# Altium footprint library MICROCHIP_Footprints.PcbLib: 9 footprints
Each footprint in its own frame and in the unit in brackets; x right, y up, seen from the top. Pads: shape width x height; smd on the part's side, far side on the other; paste and mask are expansions set on the pad; w line width, h text height; cw(c..) or ccw(c..) is an arc to the next point about the centre after c.
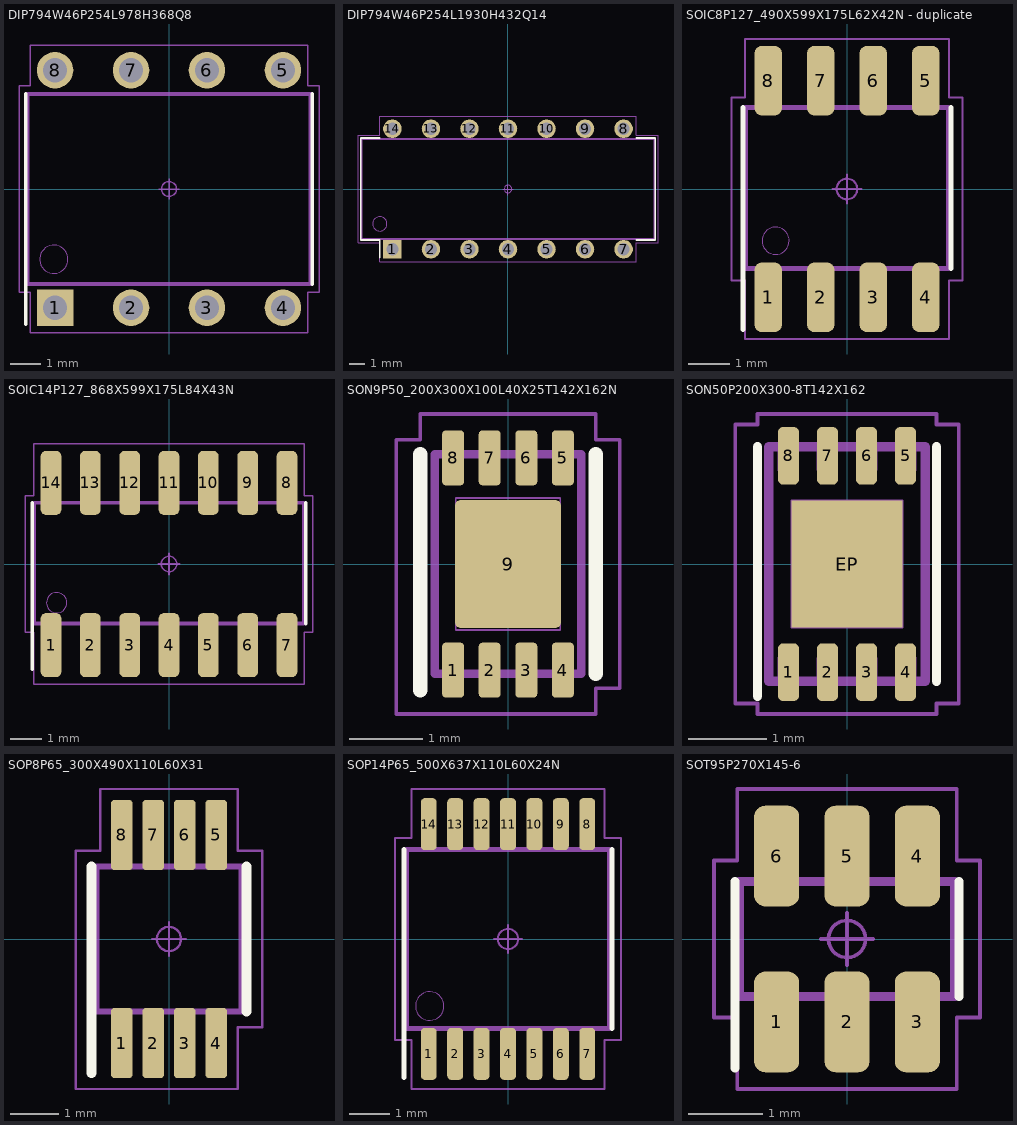
[diagram p0: the footprints below, top view; thin cyan lines are the x and y axes]

## DIP794W46P254L978H368Q8 [mm] "DIP, 7.94 mm lead span, 2.54 mm pitch; 8 pin, 9.78 mm L X 6.60 mm W X 3.68 mm H body"
height 3.68
pads (8):
  rect 1.22x1.22 hole 0.81: 1(-3.81,-3.97)
  round 1.22 hole 0.81: 2(-1.27,-3.97) 3(1.27,-3.97) 4(3.81,-3.97) 5(3.81,3.97) 6(1.27,3.97) 7(-1.27,3.97) 8(-3.81,3.97)
Top Overlay:
  lines w0.12: -4.79,-4.52 -4.79,3.175 ; 4.79,-3.175 4.79,3.175
Mechanical 11:
  lines w0.12: -4.73,-3.175 4.73,-3.175 4.73,3.175 -4.73,3.175 -4.73,-3.175
Mechanical 12:
  circle w0.025: c-3.85,-2.35 r0.472
  lines w0.025: -4.73,-3.175 4.73,-3.175 4.73,3.175 -4.73,3.175 -4.73,-3.175
Mechanical 15:
  circle w0.05: c0,0 r0.25
  lines w0.05: -0.35,0 0.35,0 ; 0,-0.35 0,0.35 ; -5.015,-3.46 -4.645,-3.46 -4.645,-4.805 4.645,-4.805 4.645,-3.46 5.015,-3.46 5.015,3.46 4.645,3.46 4.645,4.805 -4.645,4.805 -4.645,3.46 -5.015,3.46 -5.015,-3.46
Mechanical 16:
  text ".Designator" at 0,0 h1.2
3D body "DIP794W46P254L978H368Q8.STEP": height 3.68, standoff -2, extent -4.89,-4.15 4.89,4.08

## DIP794W46P254L1930H432Q14 [mm] "DIP, 7.94 mm lead span, 2.54 mm pitch; 14 pin, 19.30 mm L X 6.60 mm W X 4.32 mm H body"
height 4.32
pads (14):
  rect 1.22x1.22 hole 0.81: 1(-7.62,-3.97)
  round 1.22 hole 0.81: 2(-5.08,-3.97) 3(-2.54,-3.97) 4(0,-3.97) 5(2.54,-3.97) 6(5.08,-3.97) 7(7.62,-3.97) 8(7.62,3.97) 9(5.08,3.97) 10(2.54,3.97) 11(0,3.97) 12(-2.54,3.97) 13(-5.08,3.97) 14(-7.62,3.97)
Top Overlay:
  lines w0.12: -8.455,-4.52 -8.455,-3.36 -9.71,-3.36 -9.71,3.36 -8.455,3.36 ; 8.455,-3.36 9.71,-3.36 9.71,3.36 8.455,3.36
Mechanical 11:
  lines w0.12: -9.65,-3.3 -9.65,3.3 9.65,3.3 9.65,-3.3 -9.65,-3.3
Mechanical 12:
  circle w0.025: c-8.45,-2.3 r0.472
  lines w0.025: -9.65,-3.3 9.65,-3.3 9.65,3.3 -9.65,3.3 -9.65,-3.3
Mechanical 15:
  circle w0.05: c0,0 r0.25
  lines w0.05: -0.35,0 0.35,0 ; 0,-0.425 0,0.275 ; 9.888,-3.538 8.455,-3.538 8.455,-4.805 -8.455,-4.805 -8.455,-3.538 -9.888,-3.538 -9.888,3.538 -8.455,3.538 -8.455,4.805 8.455,4.805 8.455,3.538 9.888,3.538 9.888,-3.538
Mechanical 16:
  text ".Designator" at 0,0 h1.2
3D body "DIP794W46P254L1930H432Q14.STEP": height 4.32, standoff -2, extent -9.65,-4.125 9.65,4.105

## SOIC8P127_490X599X175L62X42N - duplicate [mm] "Small Outline IC (SOIC), 1.27 mm pitch; 8 pin, 4.90 mm L X 3.85 mm W X 1.75 mm H body"
height 1.75
pads (8):
  rrect52% 0.66x1.68 smd: 1(-1.905,-2.62) 2(-0.635,-2.62) 3(0.635,-2.62) 4(1.905,-2.62) 5(1.905,2.62) 6(0.635,2.62) 7(-0.635,2.62) 8(-1.905,2.62)
Top Overlay:
  lines w0.12: -2.51,-3.4 -2.51,1.975 ; 2.51,-1.925 2.51,1.975
Mechanical 11:
  lines w0.12: -2.45,-1.925 -2.45,1.975 2.45,1.975 2.45,-1.925 -2.45,-1.925
Mechanical 12:
  lines w0.025: -1.403,-1.181 ccw(c-1.725,-1.25) -1.4,-1.2 ; -2.45,-1.925 -2.45,1.985 2.45,1.985 2.45,-1.925 -2.45,-1.925 ; -2.115,-2.98 -2.115,-2.36 -1.695,-2.36 -1.695,-2.98 -2.115,-2.98 ; -2.115,2.42 -1.695,2.42 -1.695,3.04 -2.115,3.04 -2.115,2.42 ; -0.845,-2.98 -0.845,-2.36 -0.425,-2.36 -0.425,-2.98 -0.845,-2.98 ; -0.845,2.42 -0.425,2.42 -0.425,3.04 -0.845,3.04 -0.845,2.42 ; 0.425,-2.98 0.425,-2.36 0.845,-2.36 0.845,-2.98 0.425,-2.98 ; 0.425,2.42 0.845,2.42 0.845,3.04 0.425,3.04 0.425,2.42 ; 1.695,-2.98 1.695,-2.36 2.115,-2.36 2.115,-2.98 1.695,-2.98 ; 1.695,2.42 2.115,2.42 2.115,3.04 1.695,3.04 1.695,2.42
Mechanical 15:
  circle w0.05: c0,0 r0.25
  lines w0.05: -0.35,0 0.355,0 ; 0,-0.35 0,0.35 ; -2.795,-2.21 -2.46,-2.21 -2.46,-3.625 2.46,-3.625 2.46,-2.21 2.795,-2.21 2.795,2.21 2.46,2.21 2.46,3.625 -2.46,3.625 -2.46,2.21 -2.795,2.21 -2.795,-2.21
Mechanical 16:
  text ".Designator" at 0,0 h1.2
3D body "SOIC8P127_490X599X175L62X42.STEP": height 1.75, standoff 0, extent -2.45,-2.972 2.45,3.023

## SOIC14P127_868X599X175L84X43N [mm] "Small Outline IC (SOIC), 1.27 mm pitch; 14 pin, 8.685 mm L X 3.90 mm W X 1.75 mm H body"
height 1.75
pads (14):
  rrect52% 0.67x2.07 smd: 1(-3.81,-2.62) 2(-2.54,-2.62) 3(-1.27,-2.62) 4(0,-2.62) 5(1.27,-2.62) 6(2.54,-2.62) 7(3.81,-2.62) 8(3.81,2.62) 9(2.54,2.62) 10(1.27,2.62) 11(0,2.62) 12(-1.27,2.62) 13(-2.54,2.62) 14(-3.81,2.62)
Top Overlay:
  lines w0.12: -4.415,-3.4 -4.415,1.975 ; 4.415,-1.925 4.415,1.975
Mechanical 11:
  lines w0.12: -4.355,-1.925 -4.355,1.975 4.355,1.975 4.355,-1.925 -4.355,-1.925
Mechanical 12:
  lines w0.025: -3.6,3.03 -3.6,2.19 -4.02,2.19 -4.02,3.03 -3.6,3.04 ; -3.308,-1.181 ccw(c-3.63,-1.25) -3.305,-1.2 ; -4.355,-1.925 -4.355,1.985 4.355,1.985 4.355,-1.925 -4.355,-1.925 ; -4.02,-2.97 -4.02,-2.13 -3.6,-2.13 -3.6,-2.97 -4.02,-2.97 ; -2.75,-2.97 -2.75,-2.13 -2.33,-2.13 -2.33,-2.97 -2.75,-2.97 ; -2.75,2.19 -2.33,2.19 -2.33,3.03 -2.75,3.03 -2.75,2.19 ; -1.48,-2.97 -1.48,-2.13 -1.06,-2.13 -1.06,-2.97 -1.48,-2.97 ; -1.48,2.19 -1.06,2.19 -1.06,3.03 -1.48,3.03 -1.48,2.19 ; -0.21,-2.97 -0.21,-2.13 0.21,-2.13 0.21,-2.97 -0.21,-2.97 ; -0.21,2.19 0.21,2.19 0.21,3.03 -0.21,3.03 -0.21,2.19 ; 1.06,-2.97 1.48,-2.97 1.48,-2.13 1.06,-2.13 1.06,-2.97 ; 1.06,2.19 1.48,2.19 1.48,3.03 1.06,3.03 1.06,2.19 ; 2.33,-2.97 2.75,-2.97 2.75,-2.13 2.33,-2.13 2.33,-2.97 ; 2.33,2.19 2.75,2.19 2.75,3.03 2.33,3.03 2.33,2.19 ; 3.6,-2.97 4.02,-2.97 4.02,-2.13 3.6,-2.13 3.6,-2.97 ; 3.6,2.19 4.02,2.19 4.02,3.03 3.6,3.03 3.6,2.19
Mechanical 15:
  circle w0.05: c0,0 r0.25
  lines w0.05: -0.35,0 0.35,0 ; 0,-0.35 0,0.35 ; -4.64,-2.21 -4.365,-2.21 -4.365,-3.88 4.365,-3.88 4.365,-2.21 4.64,-2.21 4.64,2.21 4.365,2.21 4.365,3.88 -4.365,3.88 -4.365,2.21 -4.64,2.21 -4.64,-2.21
Mechanical 16:
  text ".Designator" at 0,0 h1.2
3D body "SOIC14P127_868X599X175L84X43.STEP": height 1.75, standoff 0, extent -4.342,-2.95 4.342,3.045

## SON9P50_200X300X100L40X25T142X162N [mm]
height 0.9
pads (9):
  rrect33% 0.3x0.75 smd: 1(-0.75,-1.45) 2(-0.25,-1.45) 3(0.25,-1.45) 4(0.75,-1.45) 5(0.75,1.45) 6(0.25,1.45) 7(-0.25,1.45) 8(-0.75,1.45)
  rrect11% 1.45x1.75 smd: 9(0,0)
Top Overlay:
  lines w0.2: -1.2,-1.725 -1.2,1.5 ; 1.2,-1.5 1.2,1.5
Mechanical 11:
  lines w0.12: -1,-1.5 1,-1.5 1,1.5 -1,1.5 -1,-1.5
Mechanical 12:
  lines w0.025: -0.875,-1.5 -0.875,-1.2 cw(c-0.75,-1.228) -0.625,-1.2 -0.625,-1.5 ; -0.875,1.5 -0.875,1.2 ccw(c-0.75,1.228) -0.625,1.2 -0.625,1.5 ; -0.713,-0.9 0.713,-0.9 0.713,0.9 -0.713,0.9 -0.713,-0.9 ; -0.375,-1.5 -0.375,-1.2 cw(c-0.25,-1.228) -0.125,-1.2 -0.125,-1.5 ; -0.375,1.5 -0.375,1.2 ccw(c-0.25,1.228) -0.125,1.2 -0.125,1.5 ; 0.125,-1.5 0.125,-1.2 cw(c0.25,-1.228) 0.375,-1.2 0.375,-1.5 ; 0.125,1.5 0.125,1.2 ccw(c0.25,1.228) 0.375,1.2 0.375,1.5 ; 0.625,-1.5 0.625,-1.2 cw(c0.75,-1.228) 0.875,-1.2 0.875,-1.5 ; 0.625,1.5 0.625,1.2 ccw(c0.75,1.228) 0.875,1.2 0.875,1.5 ; -1,-1.5 -1,1.5 1,1.5 1,-1.5 -1,-1.5
Mechanical 15:
  circle w0.05: c0,0 r0.25
  lines w0.05: -0.35,0 0.35,0 ; 0,-0.35 0,0.35 ; -1.525,-2.05 1.2,-2.05 1.2,-1.7 1.525,-1.7 1.525,1.7 1.2,1.7 1.2,2.05 -1.2,2.05 -1.2,1.7 -1.525,1.7 -1.525,-2.05
Mechanical 16:
  text ".Designator" at 0,0 h1.2
3D body "User Library-DFN-8-2.step": height 0.9, standoff 0, extent -1,-1.52 1,1.52

## SON50P200X300-8T142X162 [mm] "Small Outline No-Lead (SON with Tab), 0.50 mm pitch; 8 pin, 2.00 mm L X 3.00 mm W X 1.00 mm H body"
height 1
pads (9):
  rrect50% 0.27x0.74 smd: 1(-0.75,-1.385) 2(-0.25,-1.385) 3(0.25,-1.385) 4(0.75,-1.385) 5(0.75,1.385) 6(0.25,1.385) 7(-0.25,1.385) 8(-0.75,1.385)
  rect 1.425x1.625 smd paste-1.625: EP(0,0)
Top Overlay:
  lines w0.12: -1.145,-1.695 -1.145,1.5 ; 1.145,-1.5 1.145,1.5
Top Paste:
  region: 0.49,-0.665 -0.49,-0.665 -0.49,-0.075 0.49,-0.075
  region: 0.49,0.075 -0.49,0.075 -0.49,0.665 0.49,0.665
Mechanical 11:
  lines w0.12: -1,-1.5 1,-1.5 1,1.5 -1,1.5 -1,-1.5
Mechanical 12:
  lines w0.025: -0.875,-1.5 -0.875,-1.2 cw(c-0.75,-1.228) -0.625,-1.2 -0.625,-1.5 ; -0.875,1.5 -0.875,1.2 ccw(c-0.75,1.228) -0.625,1.2 -0.625,1.5 ; -0.712,0.812 -0.712,-0.813 ; -0.375,-1.5 -0.375,-1.2 cw(c-0.25,-1.228) -0.125,-1.2 -0.125,-1.5 ; -0.375,1.5 -0.375,1.2 ccw(c-0.25,1.228) -0.125,1.2 -0.125,1.5 ; 0.125,-1.5 0.125,-1.2 cw(c0.25,-1.228) 0.375,-1.2 0.375,-1.5 ; 0.125,1.5 0.125,1.2 ccw(c0.25,1.228) 0.375,1.2 0.375,1.5 ; 0.625,-1.5 0.625,-1.2 cw(c0.75,-1.228) 0.875,-1.2 0.875,-1.5 ; 0.625,1.5 0.625,1.2 ccw(c0.75,1.228) 0.875,1.2 0.875,1.5 ; 0.713,0.812 0.713,-0.813 ; -0.712,-0.813 0.713,-0.813 ; -0.713,-0.813 0.713,-0.813 ; -0.713,-0.813 -0.713,0.813 ; -0.712,0.813 0.713,0.813 ; -0.713,0.813 0.713,0.813 ; 0.713,-0.813 0.713,0.813 ; -1,-1.5 1,-1.5 1,1.5 -1,1.5 -1,-1.5
Mechanical 15:
  circle w0.05: c0,0 r0.25
  lines w0.05: -0.35,0 0.35,0 ; 0,-0.35 0,0.35 ; -1.43,-1.785 -1.145,-1.785 -1.145,-1.92 1.145,-1.92 1.145,-1.785 1.43,-1.785 1.43,1.785 1.145,1.785 1.145,1.92 -1.145,1.92 -1.145,1.785 -1.43,1.785 -1.43,-1.785
Mechanical 16:
  text "'.Designator'" at 0,0 h1.2
3D body "SON9P50_200X300X100L40X25T142X162.STEP": height 1, standoff 0, extent -1,-1.55 1,1.55

## SOP8P65_300X490X110L60X31 [mm]
height 1.1
pads (8):
  rrect33% 0.45x1.45 smd: 1(-0.975,-2.15) 2(-0.325,-2.15) 3(0.325,-2.15) 4(0.975,-2.15) 5(0.975,2.15) 6(0.325,2.15) 7(-0.325,2.15) 8(-0.975,2.15)
Top Overlay:
  lines w0.2: -1.6,-2.775 -1.6,1.5 ; 1.6,-1.5 1.6,1.5
Mechanical 11:
  lines w0.12: -1.5,-1.5 -1.5,1.5 1.5,1.5 1.5,-1.5 -1.5,-1.5
Mechanical 12:
  lines w0.025: -1.5,-1.5 -1.5,1.5 1.5,1.5 1.5,-1.5 -1.5,-1.5 ; -1.13,-2.45 -0.82,-2.45 -0.82,-1.85 -1.13,-1.85 -1.13,-2.45 ; -1.13,1.85 -1.13,2.45 -0.82,2.45 -0.82,1.85 -1.13,1.85 ; -0.48,-2.45 -0.48,-1.85 -0.17,-1.85 -0.17,-2.45 -0.48,-2.45 ; -0.48,1.85 -0.17,1.85 -0.17,2.45 -0.48,2.45 -0.48,1.85 ; 0.17,-2.45 0.17,-1.85 0.48,-1.85 0.48,-2.45 0.17,-2.45 ; 0.17,1.85 0.48,1.85 0.48,2.45 0.17,2.45 0.17,1.85 ; 0.82,-2.45 1.13,-2.45 1.13,-1.85 0.82,-1.85 0.82,-2.45 ; 0.82,1.85 0.82,2.45 1.13,2.45 1.13,1.85 0.82,1.85
Mechanical 15:
  circle w0.05: c0,0 r0.25
  lines w0.05: -0.35,0 0.35,0 ; 0,-0.35 0,0.35 ; -1.925,-3.1 -1.925,1.825 -1.425,1.825 -1.425,3.1 1.425,3.1 1.425,1.825 1.925,1.825 1.925,-1.825 1.425,-1.825 1.425,-3.1 -1.925,-3.1
Mechanical 16:
  text ".Designator" at 0,0 h1.2
3D body "SOP8P65_300X490X110L60X31.STEP": height 1.1, standoff 0, extent -1.5,-2.45 1.5,2.45

## SOP14P65_500X637X110L60X24N [mm] "Small Outline Pkg (SOP), 0.65 mm pitch; 14 pin, 5.00 mm L X 4.40 mm W X 1.10 mm H body"
height 1.1
pads (14):
  rrect51% 0.39x1.28 smd: 1(-1.95,-2.825) 2(-1.3,-2.825) 3(-0.65,-2.825) 4(0,-2.825) 5(0.65,-2.825) 6(1.3,-2.825) 7(1.95,-2.825) 8(1.95,2.825) 9(1.3,2.825) 10(0.65,2.825) 11(0,2.825) 12(-0.65,2.825) 13(-1.3,2.825) 14(-1.95,2.825)
Top Overlay:
  lines w0.12: -2.56,-3.405 -2.56,2.2 ; 2.56,-2.2 2.56,2.2
Mechanical 11:
  lines w0.12: -2.5,-2.2 -2.5,2.2 2.5,2.2 2.5,-2.2 -2.5,-2.2
Mechanical 12:
  circle w0.025: c-1.925,-1.65 r0.35
  lines w0.025: -2.5,-2.2 2.5,-2.2 2.5,2.2 -2.5,2.2 -2.5,-2.2 ; -2.075,-3.19 -1.825,-3.19 -1.825,-2.59 -2.075,-2.59 -2.075,-3.19 ; -2.075,2.59 -1.825,2.59 -1.825,3.19 -2.075,3.19 -2.075,2.59 ; -1.425,-3.19 -1.425,-2.59 -1.175,-2.59 -1.175,-3.19 -1.425,-3.19 ; -1.425,2.59 -1.175,2.59 -1.175,3.19 -1.425,3.19 -1.425,2.59 ; -0.775,-3.19 -0.775,-2.59 -0.525,-2.59 -0.525,-3.19 -0.775,-3.19 ; -0.775,2.59 -0.525,2.59 -0.525,3.19 -0.775,3.19 -0.775,2.59 ; -0.125,-3.19 -0.125,-2.59 0.125,-2.59 0.125,-3.19 -0.125,-3.19 ; -0.125,2.59 0.125,2.59 0.125,3.19 -0.125,3.19 -0.125,2.59 ; 0.525,-3.19 0.525,-2.59 0.775,-2.59 0.775,-3.19 0.525,-3.19 ; 0.525,2.59 0.775,2.59 0.775,3.19 0.525,3.19 0.525,2.59 ; 1.175,-3.19 1.175,-2.59 1.425,-2.59 1.425,-3.19 1.175,-3.19 ; 1.175,2.588 1.425,2.588 1.425,3.188 1.175,3.188 1.175,2.588 ; 1.825,-3.192 1.825,-2.592 2.075,-2.592 2.075,-3.192 1.825,-3.192 ; 1.825,2.59 2.075,2.59 2.075,3.19 1.825,3.19 1.825,2.59
Mechanical 15:
  circle w0.05: c0,0 r0.25
  lines w0.05: -0.35,0 0.35,0 ; 0,-0.35 0,0.35 ; -2.785,-2.485 -2.785,2.485 -2.37,2.485 -2.37,3.69 2.37,3.69 2.37,2.485 2.785,2.485 2.785,-2.485 2.37,-2.485 2.37,-3.69 -2.37,-3.69 -2.37,-2.485 -2.785,-2.485
Mechanical 16:
  text ".Designator" at 0,0 h1.2
3D body "SOP14P65_500X637X110L60X24.STEP": height 1.1, standoff 0, extent -2.5,-3.15 2.5,3.225

## SOT95P270X145-6 [mm] "Small Outline Transistor (SOT23), 0.95 mm pitch; 6 pin, 2.90 mm L X 1.55 mm W X 1.45 mm H body"
height 1.45
pads (6):
  rrect49% 0.61x1.36 smd: 1(-0.95,-1.12) 2(0,-1.12) 3(0.95,-1.12) 4(0.95,1.12) 5(0,1.12) 6(-0.95,1.12)
Top Overlay:
  lines w0.12: -1.51,-1.74 -1.51,0.775 ; 1.51,-0.775 1.51,0.775
Mechanical 11:
  lines w0.12: -1.45,-0.775 1.45,-0.775 1.45,0.775 -1.45,0.775 -1.45,-0.775
Mechanical 12:
  lines w0.025: 0.175,-0.775 0.178,-0.777 ; 1.125,-0.775 1.128,-0.777 ; -1.45,-0.775 -1.45,0.775 1.45,0.775 1.45,-0.775 -1.45,-0.775 ; -1.127,-1.35 -0.775,-1.35 -0.775,-1 -1.127,-1 -1.127,-1.35 ; -1.125,0.998 -0.773,0.998 -0.773,1.348 -1.125,1.348 -1.125,0.998 ; -0.178,-1.35 -0.178,-1 0.178,-1 0.178,-1.35 -0.178,-1.35 ; -0.178,0.998 0.178,0.998 0.178,1.35 -0.178,1.35 -0.178,0.998 ; 0.773,-1.35 0.773,-1 1.128,-1 1.128,-1.35 0.773,-1.35 ; 0.773,0.998 1.128,0.998 1.128,1.35 0.773,1.35 0.773,0.998
Mechanical 15:
  circle w0.05: c0,0 r0.25
  lines w0.05: -0.35,0 0.35,0 ; 0,-0.35 0,0.35 ; -1.795,-1.06 -1.48,-1.06 -1.48,-2.025 1.48,-2.025 1.48,-1.06 1.795,-1.06 1.795,1.06 1.48,1.06 1.48,2.025 -1.48,2.025 -1.48,1.06 -1.795,1.06 -1.795,-1.06
Mechanical 16:
  text "'.Designator'" at 0,0 h1.2
3D body "SOT23-6P95_270X145L35X35.STEP": height 1.45, standoff 0, extent -1.45,-1.35 1.45,1.35